# Altium footprint library u-dfn2020-6.PcbLib: 1 footprints
Each footprint in its own frame and in the unit in brackets; x right, y up, seen from the top. Pads: shape width x height; smd on the part's side, far side on the other; paste and mask are expansions set on the pad; w line width, h text height; cw(c..) or ccw(c..) is an arc to the next point about the centre after c.
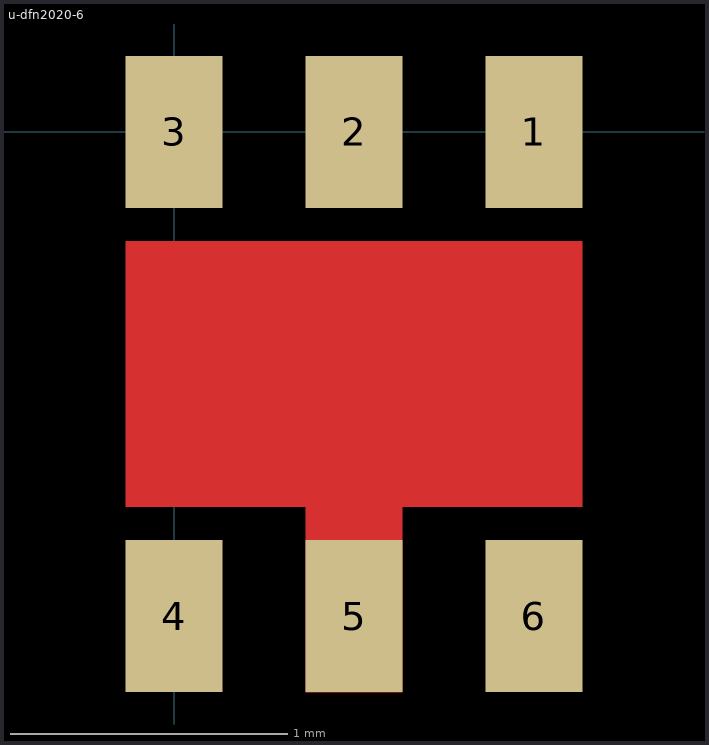
[diagram p0: the footprint, top view; thin cyan lines are the x and y axes]

## u-dfn2020-6 [mm]
pads (6):
  rect 0.35x0.55 all layers, no hole: 1(1.3,0) 2(0.65,0) 3(0,0) 4(0,-1.75) 5(0.65,-1.75) 6(1.3,-1.75)
Top Layer:
  region: -0.175,-0.395 1.475,-0.395 1.475,-1.355 0.825,-1.355 0.825,-2.025 0.475,-2.025 0.475,-1.355 -0.175,-1.355